# Altium footprint library SparkFun-IC-Special-Function.PCBLIB: 44 footprints (part 2 of 3)
Each footprint in its own frame and in the unit in brackets; x right, y up, seen from the top. Pads: shape width x height; smd on the part's side, far side on the other; paste and mask are expansions set on the pad; w line width, h text height; cw(c..) or ccw(c..) is an arc to the next point about the centre after c.
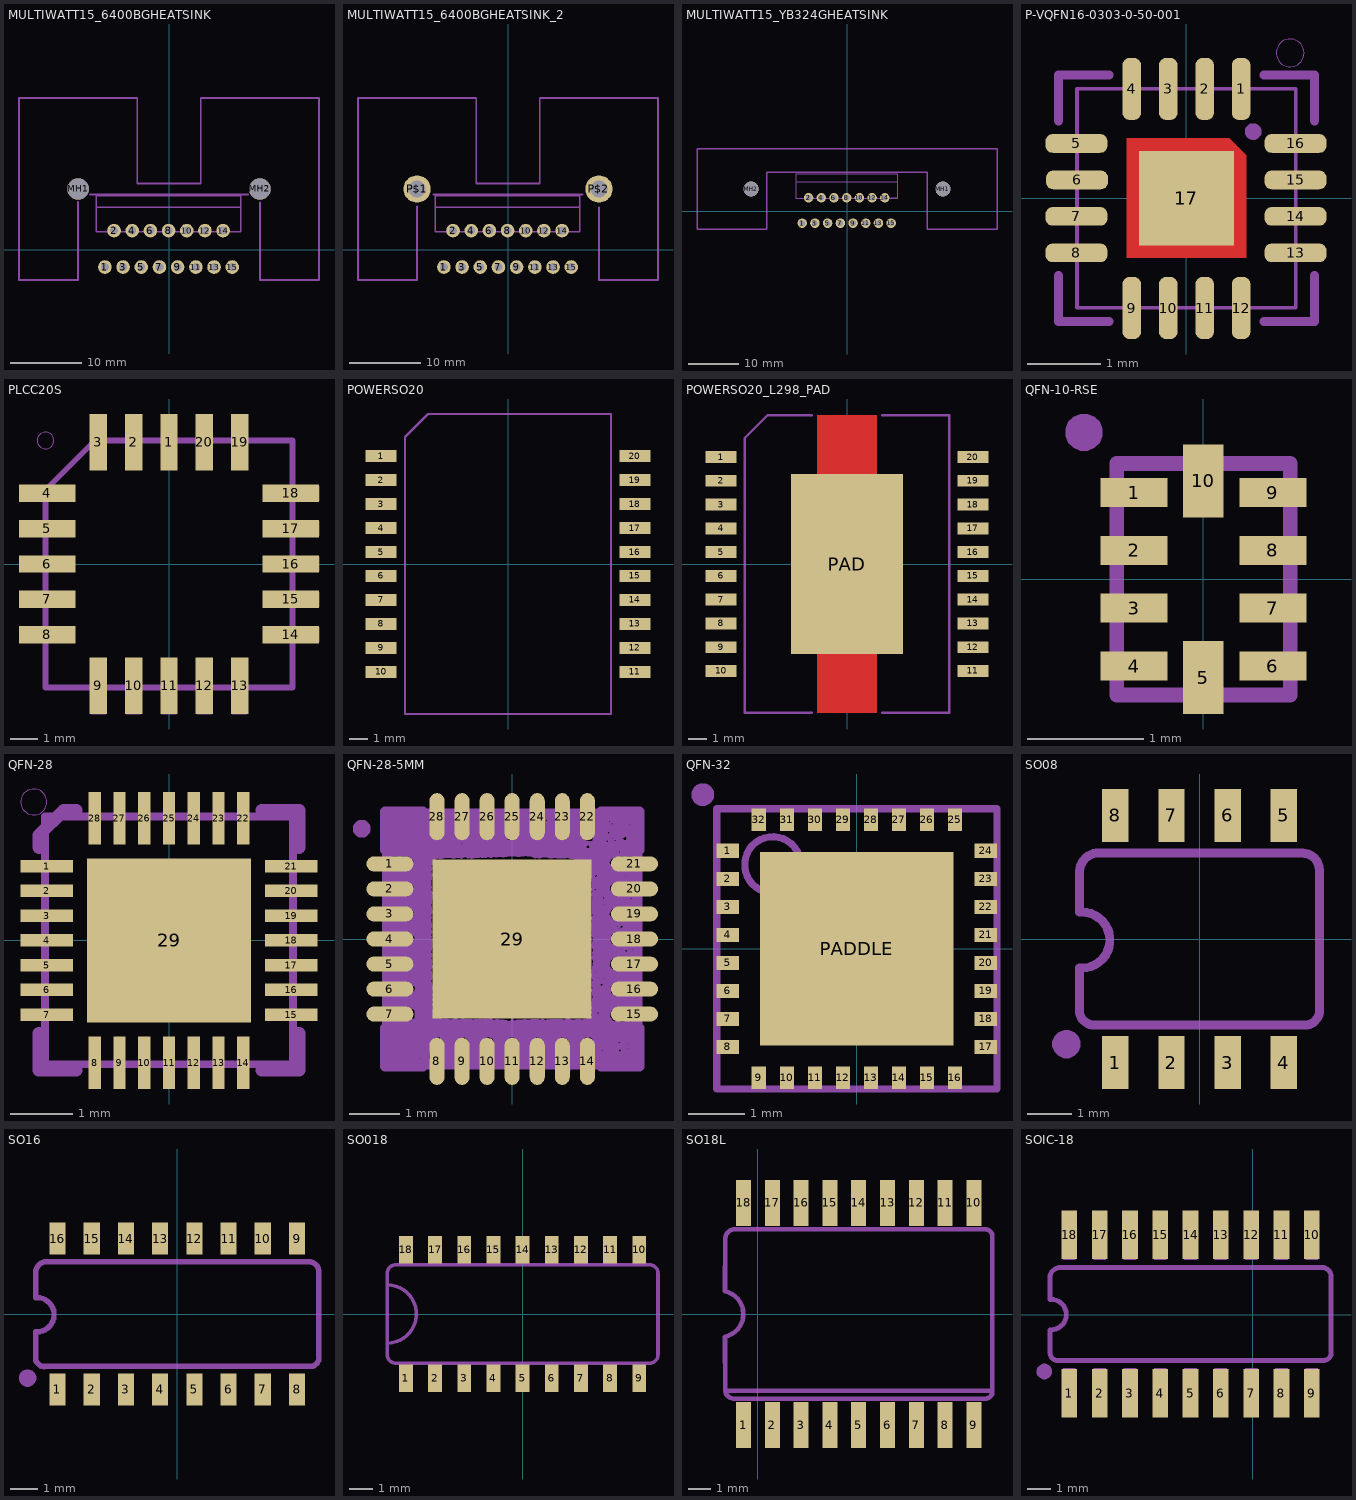
[diagram p1: the footprints below, top view; thin cyan lines are the x and y axes]

## MULTIWATT15_6400BGHEATSINK [mil]
pads (17):
  round 74.8 hole 43.31: 1(-352.36,-94.09) 2(-302.36,105.91) 3(-252.36,-94.09) 4(-202.36,105.91) 5(-152.36,-94.09) 6(-102.36,105.91) 7(-52.36,-94.09) 8(-2.36,105.91) 9(47.64,-94.09) 10(97.64,105.91) 11(147.64,-94.09) 12(197.64,105.91) 13(247.64,-94.09) 14(297.64,105.91) 15(347.64,-94.09)
  round 118 hole 118 unplated: MH1(-500,335) MH2(500,335)
tDocu:
  lines w8: -400,100 395.28,100
  lines w10: -500,265 -500,-165 -825,-165 -825,835 -175,835 -175,366 175,366 175,835 825,835 825,-165 500,-165 500,260 ; -435,304 435,304
tPlace:
  lines w8: -400,100 -400,233.86 ; -399.61,100.39 -348.43,100.39 ; -255.91,100.39 -248.03,100.39 ; -155.51,100.39 -147.64,100.39 ; -57.09,100.39 -49.21,100.39 ; 43.31,100.39 51.18,100.39 ; 143.7,100.39 151.57,100.39 ; 244.09,100.39 251.97,100.39 ; 344.49,100.39 395.67,100.39 ; 395.28,100 395.28,233.86 ; -400,233.86 -400,296.85 395.28,296.85 395.28,233.86 ; -400,233.86 395.28,233.86

## MULTIWATT15_6400BGHEATSINK_2 [mil]
pads (17):
  round 74.8 hole 43.31: 1(-352.36,-94.09) 2(-302.36,105.91) 3(-252.36,-94.09) 4(-202.36,105.91) 5(-152.36,-94.09) 6(-102.36,105.91) 7(-52.36,-94.09) 8(-2.36,105.91) 9(47.64,-94.09) 10(97.64,105.91) 11(147.64,-94.09) 12(197.64,105.91) 13(247.64,-94.09) 14(297.64,105.91) 15(347.64,-94.09)
  round 150 hole 95: P$1(-500,335) P$2(500,335)
tPlace:
  lines w8: -399.61,100.39 -348.43,100.39 ; -255.91,100.39 -248.03,100.39 ; -155.51,100.39 -147.64,100.39 ; -57.09,100.39 -49.21,100.39 ; 43.31,100.39 51.18,100.39 ; 143.7,100.39 151.57,100.39 ; 244.09,100.39 251.97,100.39 ; 344.49,100.39 395.67,100.39 ; -400,233.86 -400,100 395.28,100 395.28,233.86 ; -400,233.86 -400,296.85 395.28,296.85 395.28,233.86 ; -400,233.86 395.28,233.86
  lines w10: -500,240 -500,-165 -825,-165 -825,835 -175,835 -175,366 175,366 175,835 825,835 825,-165 500,-165 500,235 ; -410,304 410,304

## MULTIWATT15_YB324GHEATSINK [mil]
pads (17):
  round 74.8 hole 43.31: 1(-352.36,-94.09) 2(-302.36,105.91) 3(-252.36,-94.09) 4(-202.36,105.91) 5(-152.36,-94.09) 6(-102.36,105.91) 7(-52.36,-94.09) 8(-2.36,105.91) 9(47.64,-94.09) 10(97.64,105.91) 11(147.64,-94.09) 12(197.64,105.91) 13(247.64,-94.09) 14(297.64,105.91) 15(347.64,-94.09)
  round 118 hole 118 unplated: MH1(754,175) MH2(-754,175)
tDocu:
  lines w8: -400,100 395.28,100
  lines w10: -1181,-140 -630,-140 -630,305 630,305 630,-140 1181,-140 1181,490 -1181,490 -1181,-140
tPlace:
  lines w8: -400,100 -400,233.86 ; -399.61,100.39 -348.43,100.39 ; -255.91,100.39 -248.03,100.39 ; -155.51,100.39 -147.64,100.39 ; -57.09,100.39 -49.21,100.39 ; 43.31,100.39 51.18,100.39 ; 143.7,100.39 151.57,100.39 ; 244.09,100.39 251.97,100.39 ; 344.49,100.39 395.67,100.39 ; 395.28,100 395.28,233.86 ; -400,233.86 -400,296.85 395.28,296.85 395.28,233.86 ; -400,233.86 395.28,233.86

## P-VQFN16-0303-0-50-001 [mm]
pads (17):
  rrect75% 0.255x0.85 smd paste+0: 1(0.75,1.498) 2(0.25,1.498) 3(-0.25,1.498) 4(-0.75,1.498) 9(-0.75,-1.506) 10(-0.25,-1.506) 11(0.25,-1.506) 12(0.75,-1.506)
  rrect75% 0.85x0.255 smd paste+0: 5(-1.508,0.75) 6(-1.5,0.25) 7(-1.508,-0.25) 8(-1.508,-0.75) 13(1.496,-0.75) 14(1.496,-0.25) 15(1.496,0.25) 16(1.496,0.75)
  rect 1.3x1.3 smd paste+0 mask+0: 17(0,0)
Top:
  region: -0.82,-0.82 0.82,-0.82 0.82,0.59 0.59,0.82 -0.82,0.82
Top Paste:
  circle w0: c0.508,0.508 r0.203
  circle w0: c0,0 r0.203
  circle w0: c0.508,-0.508 r0.203
  circle w0: c-0.508,-0.508 r0.203
  circle w0: c-0.508,0.508 r0.203
  lines w0.203: -1.806,-0.751 -1.221,-0.751 ; -1.801,-0.25 -1.217,-0.25 ; -1.799,0.251 -1.215,0.251 ; -1.795,0.752 -1.211,0.752 ; -0.754,-1.788 -0.754,-1.203 ; -0.753,1.209 -0.753,1.793 ; -0.253,-1.792 -0.253,-1.208 ; -0.252,1.204 -0.252,1.788 ; 0.248,-1.795 0.248,-1.21 ; 0.248,1.202 0.248,1.786 ; 0.749,-1.798 0.749,-1.214 ; 0.749,1.198 0.749,1.782 ; 1.197,-0.747 1.782,-0.747 ; 1.202,-0.246 1.786,-0.246 ; 1.204,0.255 1.788,0.255 ; 1.208,0.756 1.792,0.756
Top Solder:
  region: -0.88,-0.87 0.87,-0.87 0.87,0.61 0.61,0.87 -0.88,0.87
tDocu:
  circle w0.127: c0.915,0.913 r0.05
  lines w0.05: -1.5,-1.5 1.5,-1.5 1.5,1.5 -1.5,1.5 -1.5,-1.5
tPlace:
  circle w0: c1.423,1.992 r0.191
  lines w0.127: -1.753,-1.065 -1.753,-1.692 -1.062,-1.692 ; -1.753,1.062 -1.753,1.689 -1.062,1.689 ; 1.065,-1.692 1.755,-1.692 1.755,-1.065 ; 1.065,1.689 1.755,1.689 1.755,1.062

## PLCC20S [mil]
pads (20):
  rect 24.8x80.12 smd: 1(0,172.54) 2(-50,172.54) 3(-100,172.54) 9(-100,-172.54) 10(-50,-172.54) 11(0,-172.54) 12(50,-172.54) 13(100,-172.54) 19(100,172.54) 20(50,172.54)
  rect 80.12x24.8 smd: 4(-172.54,100) 5(-172.54,50) 6(-172.54,0) 7(-172.54,-50) 8(-172.54,-100) 14(172.54,-100) 15(172.54,-50) 16(172.54,0) 17(172.54,50) 18(172.54,100)
tPlace:
  circle w0: c-175,175 r11.81
Document:
  region: -10.24,194.88 -10.24,212.6 10.24,212.6 10.24,194.88
  region: -60.24,194.88 -60.24,212.6 -39.76,212.6 -39.76,194.88
  region: -110.24,194.88 -110.24,212.6 -89.76,212.6 -89.76,194.88
  region: -212.6,89.76 -212.6,110.24 -194.88,110.24 -194.88,89.76
  region: -212.6,39.76 -212.6,60.24 -194.88,60.24 -194.88,39.76
  region: -212.6,-10.24 -212.6,10.24 -194.88,10.24 -194.88,-10.24
  region: -212.6,-60.24 -212.6,-39.76 -194.88,-39.76 -194.88,-60.24
  region: -212.6,-110.24 -212.6,-89.76 -194.88,-89.76 -194.88,-110.24
  region: -110.24,-212.6 -110.24,-194.88 -89.76,-194.88 -89.76,-212.6
  region: -60.24,-212.6 -60.24,-194.88 -39.76,-194.88 -39.76,-212.6
  region: -10.24,-212.6 -10.24,-194.88 10.24,-194.88 10.24,-212.6
  region: 39.76,-212.6 39.76,-194.88 60.24,-194.88 60.24,-212.6
  region: 89.76,-212.6 89.76,-194.88 110.24,-194.88 110.24,-212.6
  region: 194.88,-110.24 194.88,-89.76 212.6,-89.76 212.6,-110.24
  region: 194.88,-60.24 194.88,-39.76 212.6,-39.76 212.6,-60.24
  region: 194.88,-10.24 194.88,10.24 212.6,10.24 212.6,-10.24
  region: 194.88,39.76 194.88,60.24 212.6,60.24 212.6,39.76
  region: 194.88,89.76 194.88,110.24 212.6,110.24 212.6,89.76
  region: 89.76,194.88 89.76,212.6 110.24,212.6 110.24,194.88
  region: 39.76,194.88 39.76,212.6 60.24,212.6 60.24,194.88
  lines w8: -175,-175 -175,104.92 -104.92,175 175,175 175,-175 -175,-175

## POWERSO20 [mil]
pads (20):
  rect 65x25 smd: 1(-265,225) 2(-265,175) 3(-265,125) 4(-265,75) 5(-265,25) 6(-265,-25) 7(-265,-75) 8(-265,-125) 9(-265,-175) 10(-265,-225) 11(265,-225) 12(265,-175) 13(265,-125) 14(265,-75) 15(265,-25) 16(265,25) 17(265,75) 18(265,125) 19(265,175) 20(265,225)
tPlace:
  lines w5: -215,-313 215,-313 215,313 -167,313 -215,265 -215,-313

## POWERSO20_L298_PAD [mil]
pads (21):
  rect 65x25 smd: 1(-265,225) 2(-265,175) 3(-265,125) 4(-265,75) 5(-265,25) 6(-265,-25) 7(-265,-75) 8(-265,-125) 9(-265,-175) 10(-265,-225) 11(265,-225) 12(265,-175) 13(265,-125) 14(265,-75) 15(265,-25) 16(265,25) 17(265,75) 18(265,125) 19(265,175) 20(265,225)
  rect 236x378 smd paste+0 mask+0: PAD(0,0)
Top:
  region: -63,313 63,313 63,-313 -63,-313
Top Paste:
  drawing of 4 lines, arcs and shapes, not listed
Top Solder:
  region: -65.5,189 -65.5,315.5 65.5,315.5 65.5,189 118,189 118,-189 65.5,-189 65.5,-315.5 -65.5,-315.5 -65.5,-189 -118,-189 -118,189
tPlace:
  lines w5: -74,-313 -215,-313 -215,265 -167,313 -74,313 ; 74,-313 215,-313 215,313 74,313

## QFN-10-RSE [mm]
pads (10):
  rect 0.58x0.25 smd: 1(-0.6,0.75) 2(-0.6,0.25) 3(-0.6,-0.25) 4(-0.6,-0.75) 6(0.6,-0.75) 7(0.6,-0.25) 8(0.6,0.25) 9(0.6,0.75)
  rect 0.35x0.63 smd: 5(0,-0.85) 10(0,0.85)
tDocu:
  lines w0.127: -0.75,-1 0.75,-1 0.75,1 -0.75,1 -0.75,-1
tPlace:
  region: -1.032,1.429 -1,1.429 -0.942,1.405 -0.897,1.36 -0.873,1.302 -0.873,1.27 -0.873,1.238 -0.897,1.18 -0.942,1.135 -1,1.111 -1.032,1.111 -1.064,1.111 -1.122,1.135 -1.167,1.18 -1.191,1.238 -1.191,1.27 -1.191,1.302 -1.167,1.36 -1.122,1.405 -1.064,1.429 -1.032,1.429

## QFN-28 [mil]
pads (29):
  rect 33.46x7.87 smd paste+0: 1(-77.76,47.24) 2(-77.76,31.5) 3(-77.76,15.75) 4(-77.76,0) 5(-77.76,-15.75) 6(-77.76,-31.5) 7(-77.76,-47.24) 15(77.76,-47.24) 16(77.76,-31.5) 17(77.76,-15.75) 18(77.76,0) 19(77.76,15.75) 20(77.76,31.5) 21(77.76,47.24)
  rect 7.87x33.46 smd paste+0: 8(-47.24,-77.76) 9(-31.5,-77.76) 10(-15.75,-77.76) 11(0,-77.76) 12(15.75,-77.76) 13(31.5,-77.76) 14(47.24,-77.76) 22(47.24,77.76) 23(31.5,77.76) 24(15.75,77.76) 25(0,77.76) 26(-15.75,77.76) 27(-31.5,77.76) 28(-47.24,77.76)
  rect 104.33x104.33 smd paste+0: 29(0,0)
Top Paste:
  region: -39.12,-39.12 -39.12,-13.04 -13.04,-13.04 -13.04,-39.12
  region: 39.12,39.12 39.12,13.04 13.04,13.04 13.04,39.12
  region: -39.12,13.04 -39.12,39.12 -13.04,39.12 -13.04,13.04
  region: 39.12,-13.04 39.12,-39.12 13.04,-39.12 13.04,-13.04
  region: -78.74,43.31 -78.74,51.18 -61.02,51.18 -61.02,43.31
  region: -78.74,27.56 -78.74,35.43 -61.02,35.43 -61.02,27.56
  region: -78.74,11.81 -78.74,19.69 -61.02,19.69 -61.02,11.81
  region: -78.74,-3.94 -78.74,3.94 -61.02,3.94 -61.02,-3.94
  region: -78.74,-19.69 -78.74,-11.81 -61.02,-11.81 -61.02,-19.69
  region: -78.74,-35.43 -78.74,-27.56 -61.02,-27.56 -61.02,-35.43
  region: -78.74,-51.18 -78.74,-43.31 -61.02,-43.31 -61.02,-51.18
  region: -43.3,-78.73 -51.19,-78.73 -51.19,-61.02 -43.3,-61.02
  region: -27.55,-78.73 -35.44,-78.73 -35.44,-61.02 -27.55,-61.02
  region: -11.81,-78.74 -19.69,-78.74 -19.69,-61.02 -11.81,-61.02
  region: 3.94,-78.74 -3.94,-78.74 -3.94,-61.02 3.94,-61.02
  region: 19.69,-78.74 11.81,-78.74 11.81,-61.02 19.69,-61.02
  region: 35.44,-78.73 27.55,-78.73 27.55,-61.02 35.44,-61.02
  region: 51.19,-78.73 43.3,-78.73 43.3,-61.02 51.19,-61.02
  region: 78.74,-43.31 78.74,-51.18 61.02,-51.18 61.02,-43.31
  region: 78.74,-27.56 78.74,-35.43 61.02,-35.43 61.02,-27.56
  region: 78.74,-11.81 78.74,-19.69 61.02,-19.69 61.02,-11.81
  region: 78.74,3.94 78.74,-3.94 61.02,-3.94 61.02,3.94
  region: 78.74,19.69 78.74,11.81 61.02,11.81 61.02,19.69
  region: 78.74,35.43 78.74,27.56 61.02,27.56 61.02,35.43
  region: 78.74,51.18 78.74,43.31 61.02,43.31 61.02,51.18
  region: 43.3,78.73 51.19,78.73 51.19,61.02 43.3,61.02
  region: 27.55,78.73 35.44,78.73 35.44,61.02 27.55,61.02
  region: 11.81,78.74 19.69,78.74 19.69,61.02 11.81,61.02
  region: -3.94,78.74 3.94,78.74 3.94,61.02 -3.94,61.02
  region: -19.69,78.74 -11.81,78.74 -11.81,61.02 -19.69,61.02
  region: -35.44,78.73 -27.55,78.73 -27.55,61.02 -35.44,61.02
  region: -51.19,78.73 -43.3,78.73 -43.3,61.02 -51.19,61.02
tDocu:
  region: -2.99,-78.74 -2.99,-62.99 2.99,-62.99 2.99,-78.74
  region: 12.76,-78.74 12.76,-62.99 18.74,-62.99 18.74,-78.74
  region: 28.5,-78.74 28.5,-62.99 34.49,-62.99 34.49,-78.74
  region: 44.25,-78.74 44.25,-62.99 50.24,-62.99 50.24,-78.74
  region: -18.74,-78.74 -18.74,-62.99 -12.76,-62.99 -12.76,-78.74
  region: -34.49,-78.74 -34.49,-62.99 -28.5,-62.99 -28.5,-78.74
  region: -50.24,-78.74 -50.24,-62.99 -44.25,-62.99 -44.25,-78.74
  region: 78.74,-50.24 62.99,-50.24 62.99,-44.25 78.74,-44.25
  region: 78.74,-34.49 62.99,-34.49 62.99,-28.5 78.74,-28.5
  region: 78.74,-18.74 62.99,-18.74 62.99,-12.75 78.74,-12.75
  region: 78.73,-3 62.99,-3 62.99,3 78.73,3
  region: 78.74,12.75 62.99,12.75 62.99,18.74 78.74,18.74
  region: 78.74,28.5 62.99,28.5 62.99,34.49 78.74,34.49
  region: 78.74,44.25 62.99,44.25 62.99,50.24 78.74,50.24
  region: 50.24,78.74 50.24,62.99 44.25,62.99 44.25,78.74
  region: 34.49,78.74 34.49,62.99 28.5,62.99 28.5,78.74
  region: 18.74,78.74 18.74,62.99 12.76,62.99 12.76,78.74
  region: 2.99,78.74 2.99,62.99 -2.99,62.99 -2.99,78.74
  region: -12.76,78.74 -12.76,62.99 -18.74,62.99 -18.74,78.74
  region: -28.5,78.74 -28.5,62.99 -34.49,62.99 -34.49,78.74
  region: -44.25,78.74 -44.25,62.99 -50.24,62.99 -50.24,78.74
  region: -78.74,50.24 -62.99,50.24 -62.99,44.25 -78.74,44.25
  region: -78.74,34.49 -62.99,34.49 -62.99,28.5 -78.74,28.5
  region: -78.74,18.74 -62.99,18.74 -62.99,12.75 -78.74,12.75
  region: -78.73,3 -62.99,3 -62.99,-3 -78.73,-3
  region: -78.74,-12.75 -62.99,-12.75 -62.99,-18.74 -78.74,-18.74
  region: -78.74,-28.5 -62.99,-28.5 -62.99,-34.49 -78.74,-34.49
  region: -78.74,-44.25 -62.99,-44.25 -62.99,-50.24 -78.74,-50.24
  lines w5: -78.74,-78.74 -78.74,78.74 78.74,78.74 78.74,-78.74 -78.74,-78.74
tPlace:
  circle w0: c-86,88 r8.25
  lines w8: -82.68,-59.06 -82.68,-82.68 -59.06,-82.68 ; -82.68,59.06 -82.68,66.93 -66.93,82.68 -59.06,82.68 ; 59.06,-82.68 82.68,-82.68 82.68,-59.06 ; 59.06,82.68 82.68,82.68 82.68,59.06

## QFN-28-5MM [mil]
pads (29):
  rrect100% 37x11.81 smd: 1(-96.06,59.06) 2(-96.06,39.37) 3(-96.06,19.69) 4(-96.06,0) 5(-96.06,-19.69) 6(-96.06,-39.37) 7(-96.06,-59.06) 15(96.06,-59.06) 16(96.06,-39.37) 17(96.06,-19.69) 18(96.06,0) 19(96.06,19.69) 20(96.06,39.37) 21(96.06,59.06)
  rrect100% 11.81x37 smd: 8(-59.06,-96.06) 9(-39.37,-96.06) 10(-19.69,-96.06) 11(0,-96.06) 12(19.69,-96.06) 13(39.37,-96.06) 14(59.06,-96.06) 22(59.06,96.06) 23(39.37,96.06) 24(19.69,96.06) 25(0,96.06) 26(-19.69,96.06) 27(-39.37,96.06) 28(-59.06,96.06)
  rect 125x125 smd paste+0: 29(0,0)
Top Paste:
  region: 13.5,-13.5 -13.5,-13.5 -13.5,13.5 13.5,13.5
tDocu:
  lines w8: -98.43,-98.43 -98.43,98.43 98.43,98.43 98.43,-98.43 -98.43,-98.43
tPlace:
  circle w8: c-118.11,86.61 r3
  lines w8: -100,-70 -100,-100 -70,-100 ; -100,70 -100,100 -70,100 ; 70,-100 100,-100 100,-70 ; 70,100 100,100 ; 100,70 100,98.43
Mech67:
  drawing of 2254 lines, arcs and shapes, not listed

## QFN-32 [mil]
pads (33):
  rect 15.75x9.84 smd paste+0: 1(-90.55,68.9) 2(-90.55,49.21) 3(-90.55,29.53) 4(-90.55,9.84) 5(-90.55,-9.84) 6(-90.55,-29.53) 7(-90.55,-49.21) 8(-90.55,-68.9) 17(90.55,-68.9) 18(90.55,-49.21) 19(90.55,-29.53) 20(90.55,-9.84) 21(90.55,9.84) 22(90.55,29.53) 23(90.55,49.21) 24(90.55,68.9)
  rect 9.84x15.75 smd paste+0: 9(-68.9,-90.55) 10(-49.21,-90.55) 11(-29.53,-90.55) 12(-9.84,-90.55) 13(9.84,-90.55) 14(29.53,-90.55) 15(49.21,-90.55) 16(68.9,-90.55) 25(68.9,90.55) 26(49.21,90.55) 27(29.53,90.55) 28(9.84,90.55) 29(-9.84,90.55) 30(-29.53,90.55) 31(-49.21,90.55) 32(-68.9,90.55)
  rect 135.83x135.83 smd paste+0: PADDLE(0,0)
Top Paste:
  region: -97.44,-12.8 -97.44,-6.89 -83.66,-6.89 -83.66,-12.8
  region: -97.44,-32.48 -97.44,-26.57 -83.66,-26.57 -83.66,-32.48
  region: -97.44,-52.17 -97.44,-46.26 -83.66,-46.26 -83.66,-52.17
  region: -97.44,-71.85 -97.44,-65.94 -83.66,-65.94 -83.66,-71.85
  region: -97.44,65.94 -97.44,71.85 -83.66,71.85 -83.66,65.94
  region: -97.44,46.26 -97.44,52.17 -83.66,52.17 -83.66,46.26
  region: -97.44,26.57 -97.44,32.48 -83.66,32.48 -83.66,26.57
  region: -97.44,6.89 -97.44,12.8 -83.66,12.8 -83.66,6.89
  region: 12.79,-97.44 6.89,-97.44 6.89,-83.66 12.79,-83.66
  region: 32.48,-97.44 26.58,-97.44 26.58,-83.66 32.48,-83.66
  region: 52.16,-97.44 46.26,-97.44 46.26,-83.66 52.16,-83.66
  region: 71.85,-97.44 65.95,-97.44 65.95,-83.66 71.85,-83.66
  region: -65.95,-97.44 -71.85,-97.44 -71.85,-83.66 -65.95,-83.66
  region: -46.26,-97.44 -52.16,-97.44 -52.16,-83.66 -46.26,-83.66
  region: -26.58,-97.44 -32.48,-97.44 -32.48,-83.66 -26.58,-83.66
  region: -6.89,-97.44 -12.79,-97.44 -12.79,-83.66 -6.89,-83.66
  region: 97.44,12.8 97.44,6.89 83.66,6.89 83.66,12.8
  region: 97.44,32.48 97.44,26.57 83.66,26.57 83.66,32.48
  region: 97.44,52.17 97.44,46.26 83.66,46.26 83.66,52.17
  region: 97.44,71.85 97.44,65.94 83.66,65.94 83.66,71.85
  region: 97.44,-65.94 97.44,-71.85 83.66,-71.85 83.66,-65.94
  region: 97.44,-46.26 97.44,-52.17 83.66,-52.17 83.66,-46.26
  region: 97.44,-26.57 97.44,-32.48 83.66,-32.48 83.66,-26.57
  region: 97.44,-6.89 97.44,-12.8 83.66,-12.8 83.66,-6.89
  region: -12.79,97.44 -6.89,97.44 -6.89,83.66 -12.79,83.66
  region: -32.48,97.44 -26.58,97.44 -26.58,83.66 -32.48,83.66
  region: -52.16,97.44 -46.26,97.44 -46.26,83.66 -52.16,83.66
  region: -71.85,97.44 -65.95,97.44 -65.95,83.66 -71.85,83.66
  region: 65.95,97.44 71.85,97.44 71.85,83.66 65.95,83.66
  region: 46.26,97.44 52.16,97.44 52.16,83.66 46.26,83.66
  region: 26.58,97.44 32.48,97.44 32.48,83.66 26.58,83.66
  region: 6.89,97.44 12.79,97.44 12.79,83.66 6.89,83.66
  region: -49.21,9.84 -49.21,49.21 -9.84,49.21 -9.84,9.84
  region: -49.21,-49.21 -49.21,-9.84 -9.84,-9.84 -9.84,-49.21
  region: 9.84,-49.21 9.84,-9.84 49.21,-9.84 49.21,-49.21
  region: 9.84,9.84 9.84,49.21 49.21,49.21 49.21,9.84
tDocu:
  circle w5: c-59.06,59.06 r19.69
  lines w5: -98.43,-98.43 -98.43,98.43 98.43,98.43 98.43,-98.43 -98.43,-98.43
tPlace:
  circle w8: c-108.27,108.27 r4

## SO08 [mil]
pads (8):
  rect 23.62x47.24 smd: 1(-75,-110.24) 2(-25,-110.24) 3(25,-110.24) 4(75,-110.24) 5(75,110.24) 6(25,110.24) 7(-25,110.24) 8(-75,110.24)
tDocu:
  region: -85,-130 -85,-89.5 -65,-89.5 -65,-130
  region: -35,-130 -35,-89.5 -15,-89.5 -15,-130
  region: 15,-130 15,-89.5 35,-89.5 35,-130
  region: 65,-130 65,-89.5 85,-89.5 85,-130
  region: -35,90 -35,130 -15,130 -15,90
  region: 15,90 15,130 35,130 35,90
  region: 65,90 65,130 85,130 85,90
  region: -85,90 -85,130 -65,130 -65,90
tPlace:
  region: -106.25,-93.75 -106.25,-91.26 -108.15,-86.67 -111.67,-83.15 -116.26,-81.25 -118.75,-81.25 -121.24,-81.25 -125.83,-83.15 -129.35,-86.67 -131.25,-91.26 -131.25,-93.75 -131.25,-96.24 -129.35,-100.83 -125.83,-104.35 -121.24,-106.25 -118.75,-106.25 -116.26,-106.25 -111.67,-104.35 -108.15,-100.83 -106.25,-96.24 -106.25,-93.75
  lines w8: -107,-26 -107,-65.56 ccw(c-93.97,-63.6) -92,-76.63 95.94,-76.63 ccw(c93.97,-63.6) 107,-61.63 107,61.63 ccw(c92,61.63) 92,76.63 -92,76.63 ccw(c-90.03,59.66) -107,57.69 ; -107,24 -107,57.19 ; -105,-26 ccw(c-105,-1) -105,24

## SO16 [mil]
pads (16):
  rect 23.62x47.24 smd: 1(-175,-110.24) 2(-125,-110.24) 3(-75,-110.24) 4(-25,-110.24) 5(25,-110.24) 6(75,-110.24) 7(125,-110.24) 8(175,-110.24) 9(175,110.24) 10(125,110.24) 11(75,110.24) 12(25,110.24) 13(-25,110.24) 14(-75,110.24) 15(-125,110.24) 16(-175,110.24)
tDocu:
  region: -185,-130 -185,-89.5 -165,-89.5 -165,-130
  region: -135,-130 -135,-89.5 -115,-89.5 -115,-130
  region: -85,-130 -85,-89.5 -65,-89.5 -65,-130
  region: -35,-130 -35,-89.5 -15,-89.5 -15,-130
  region: 15,-130 15,-89.5 35,-89.5 35,-130
  region: 65,-130 65,-89.5 85,-89.5 85,-130
  region: 115,-130 115,-89.5 135,-89.5 135,-130
  region: 165,-130 165,-89.5 185,-89.5 185,-130
  region: -135,90 -135,130 -115,130 -115,90
  region: -85,90 -85,130 -65,130 -65,90
  region: -35,90 -35,130 -15,130 -15,90
  region: 15,90 15,130 35,130 35,90
  region: 65,90 65,130 85,130 85,90
  region: 115,90 115,130 135,130 135,90
  region: 165,90 165,130 185,130 185,90
  region: -185,90 -185,130 -165,130 -165,90
tPlace:
  region: -206.25,-93.75 -206.25,-91.26 -208.15,-86.67 -211.67,-83.15 -216.26,-81.25 -218.75,-81.25 -221.24,-81.25 -225.83,-83.15 -229.35,-86.67 -231.25,-91.26 -231.25,-93.75 -231.25,-96.24 -229.35,-100.83 -225.83,-104.35 -221.24,-106.25 -218.75,-106.25 -216.26,-106.25 -211.67,-104.35 -208.15,-100.83 -206.25,-96.24 -206.25,-93.75
  lines w8: -207,-26 -207,-65.56 ccw(c-193.97,-63.6) -192,-76.63 195.94,-76.63 ccw(c193.97,-63.6) 207,-61.63 207,61.63 ccw(c192,61.63) 192,76.63 -192,76.63 ccw(c-190.03,59.66) -207,57.69 ; -207,24 -207,57.19 ; -205,-26 ccw(c-205,-1) -205,24

## SO018 [mil]
pads (18):
  rect 23.62x47.24 smd: 1(-200,-110.24) 2(-150,-110.24) 3(-100,-110.24) 4(-50,-110.24) 5(0,-110.24) 6(50,-110.24) 7(100,-110.24) 8(150,-110.24) 9(200,-110.24) 10(200,110.24) 11(150,110.24) 12(100,110.24) 13(50,110.24) 14(0,110.24) 15(-50,110.24) 16(-100,110.24) 17(-150,110.24) 18(-200,110.24)
tPlace:
  region: -210,-89.5 -210,-84.5 -190,-84.5 -190,-89.5
  region: -160,-89.5 -160,-84.5 -140,-84.5 -140,-89.5
  region: -110,-89.5 -110,-84.5 -90,-84.5 -90,-89.5
  region: -60,-89.5 -60,-84.5 -40,-84.5 -40,-89.5
  region: -10,-89.5 -10,-84.5 10,-84.5 10,-89.5
  region: 40,-89.5 40,-84.5 60,-84.5 60,-89.5
  region: 90,-89.5 90,-84.5 110,-84.5 110,-89.5
  region: 140,-89.5 140,-84.5 160,-84.5 160,-89.5
  region: -210,84.5 -210,89.5 -190,89.5 -190,84.5
  region: -160,84.5 -160,89.5 -140,89.5 -140,84.5
  region: -110,84.5 -110,89.5 -90,89.5 -90,84.5
  region: -60,84.5 -60,89.5 -40,89.5 -40,84.5
  region: -10,84.5 -10,89.5 10,89.5 10,84.5
  region: 40,84.5 40,89.5 60,89.5 60,84.5
  region: 90,84.5 90,89.5 110,89.5 110,84.5
  region: 140,84.5 140,89.5 160,89.5 160,84.5
  lines w6: -232,-50 ccw(c-232,0) -232,50 ; -232,-69.5 ccw(c-217,-69.5) -217,-84.5 217,-84.5 ccw(c217,-69.5) 232,-69.5 232,69.5 ccw(c217,69.5) 217,84.5 -217,84.5 ccw(c-217,69.5) -232,69.5 -232,-69.5

## SO18L [mil]
pads (18):
  rect 26x80 smd: 1(-25,-193) 2(25,-193) 3(75,-193) 4(125,-193) 5(175,-193) 6(225,-193) 7(275,-193) 8(325,-193) 9(375,-193) 10(375,193) 11(325,193) 12(275,193) 13(225,193) 14(175,193) 15(125,193) 16(75,193) 17(25,193) 18(-25,193)
tPlace:
  lines w8: -52.24,-133 404,-133 ; -57.09,-39.37 -57,-132 ccw(c-41,-131) -40,-147 394,-147 ccw(c394.51,-134.51) 407,-135 407,135 ccw(c394.51,134.51) 394,147 -40,147 ccw(c-40,130) -57,130 -57.09,39.37 cw(c-65.48,0) -57.09,-39.37

## SOIC-18 [mil]
pads (18):
  rect 26x80 smd: 1(-302.56,-129.32) 2(-252.56,-129.32) 3(-202.56,-129.32) 4(-152.56,-129.32) 5(-102.56,-129.32) 6(-52.56,-129.32) 7(-2.56,-129.32) 8(47.44,-129.32) 9(97.44,-129.32) 10(97.44,131.68) 11(47.44,131.68) 12(-2.56,131.68) 13(-52.56,131.68) 14(-102.56,131.68) 15(-152.56,131.68) 16(-202.56,131.68) 17(-252.56,131.68) 18(-302.56,131.68)
tDocu:
  region: -312.56,-148.82 -312.56,-88.32 -292.56,-88.32 -292.56,-148.82
  region: -262.56,-146.32 -262.56,-88.32 -242.56,-88.32 -242.56,-146.32
  region: -212.56,-146.32 -212.56,-88.32 -192.56,-88.32 -192.56,-146.32
  region: -162.56,-146.32 -162.56,-88.32 -142.56,-88.32 -142.56,-146.32
  region: -112.56,-146.32 -112.56,-88.32 -92.56,-88.32 -92.56,-146.32
  region: -62.56,-146.32 -62.56,-88.32 -42.56,-88.32 -42.56,-146.32
  region: -12.56,-146.32 -12.56,-88.32 7.44,-88.32 7.44,-146.32
  region: -312.56,90.68 -312.56,148.68 -292.56,148.68 -292.56,90.68
  region: -262.56,90.68 -262.56,148.68 -242.56,148.68 -242.56,90.68
  region: -212.56,90.68 -212.56,148.68 -192.56,148.68 -192.56,90.68
  region: -162.56,90.68 -162.56,148.68 -142.56,148.68 -142.56,90.68
  region: -112.56,90.68 -112.56,148.68 -92.56,148.68 -92.56,90.68
  region: -62.56,90.68 -62.56,148.68 -42.56,148.68 -42.56,90.68
  region: -12.56,90.68 -12.56,148.68 7.44,148.68 7.44,90.68
  region: 37.44,-148.82 37.44,-88.32 57.44,-88.32 57.44,-148.82
  region: 87.44,-146.32 87.44,-88.32 107.44,-88.32 107.44,-146.32
  region: 37.44,90.68 37.44,148.68 57.44,148.68 57.44,90.68
  region: 87.44,90.68 87.44,148.68 107.44,148.68 107.44,90.68
tPlace:
  region: -331.25,-93.75 -331.25,-91.26 -333.15,-86.67 -336.67,-83.15 -341.26,-81.25 -343.75,-81.25 -346.24,-81.25 -350.83,-83.15 -354.35,-86.67 -356.25,-91.26 -356.25,-93.75 -356.25,-96.24 -354.35,-100.83 -350.83,-104.35 -346.24,-106.25 -343.75,-106.25 -341.26,-106.25 -336.67,-104.35 -333.15,-100.83 -331.25,-96.24 -331.25,-93.75
  lines w8: -334.56,-24.82 -334.56,-64.38 ccw(c-321.54,-62.42) -319.56,-75.44 118.38,-75.44 ccw(c116.41,-62.41) 129.44,-60.44 129.44,62.81 ccw(c114.44,62.81) 114.44,77.81 -319.56,77.81 ccw(c-317.59,60.84) -334.56,58.87 ; -334.56,25.18 -334.56,58.37 ; -332.56,-24.82 ccw(c-332.56,0.18) -332.56,25.18